# EAGLE library part MP3221 (library MP3221–2.7A, 1.2MHZ, HIGH-EFFICIENCY STEP UP CONVERTER WITH INPUT DISCONNECT)
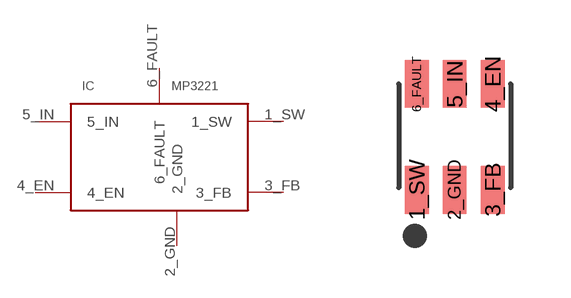
[diagram p0: symbol with the pads of TSOT23-6; footprint TSOT23-6]

Designator prefix IC

## MP3221  [TSOT23-6]
1_SW  1_SW
2_GND  2_GND
3_FB  3_FB
4_EN  4_EN
5_IN  5_IN
6_FAULT  6_FAULT

## Footprint TSOT23-6 (pad centres in mm)
smd 0.6 x 1.2: 1_SW -0.95,-1.35; 2_GND 0,-1.35; 3_FB 0.95,-1.35; 4_EN 0.95,1.3; 5_IN 0,1.3; 6_FAULT -0.95,1.3